# Altium schematic symbol library 3PDT_SW.SchLib: 1 symbol
Pins are listed as number, name and electrical type; pins without a type are passive.

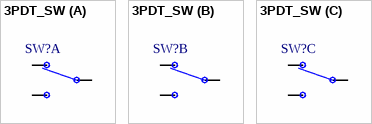
[diagram p0: symbol 3PDT_SW]

## 3PDT_SW
designator SW?  (value not drawn)
part A pins: 1, 2, 3
part B pins: 1, 2, 3
part C pins: 1, 2, 3